# EAGLE library part INA333 (library iBionics)
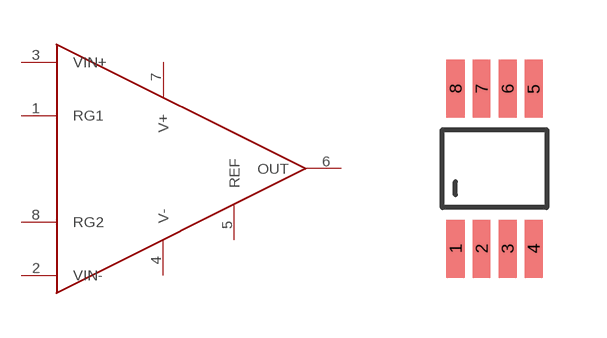
[diagram p11: symbol with the pads of INA333; footprint INA333]

Designator prefix -

## INA333  [INA333]
1  RG1
2  VIN-
3  VIN+
4  V-
5  REF
6  OUT
7  V+
8  RG2

## Footprint INA333 (pad centres in mm)
smd 0.45 x 1.45: 1 -0.975,-2; 2 -0.325,-2; 3 0.325,-2; 4 0.975,-2; 5 0.975,2; 6 0.325,2; 7 -0.325,2; 8 -0.975,2